# EAGLE library part 61001821121 (library Wuerth_Elektronik_eiCan_Pin_&_Socked_Headers_v1.3)
WR-PHD 2.54mm Dual SMT Pin Header, 18 Pins
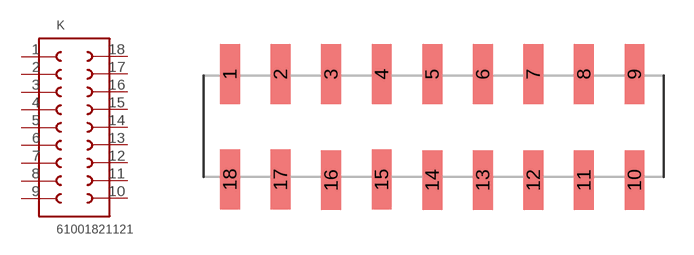
[diagram p97: symbol with the pads of 61001821121; footprint 61001821121]

Designator prefix K

## 61001821121  [61001821121]
1  1  pas
2  2  pas
3  3  pas
4  4  pas
5  5  pas
6  6  pas
7  7  pas
8  8  pas
9  9  pas
10  10  pas
11  11  pas
12  12  pas
13  13  pas
14  14  pas
15  15  pas
16  16  pas
17  17  pas
18  18  pas

## Footprint 61001821121 (pad centres in mm)
WR-PHD 2.54mm Dual SMT Pin Header, 18 Pins
smd 1 x 3: 1 -10.16,2.54; 2 -7.62,2.54; 3 -5.08,2.54; 4 -2.54,2.54; 5 0,2.54; 6 2.54,2.54; 7 5.08,2.54; 8 7.62,2.54; 9 10.16,2.54; 10 10.16,-2.79; 11 7.62,-2.79; 12 5.08,-2.79; 13 2.54,-2.79; 14 0,-2.79; 15 -2.54,-2.76; 16 -5.08,-2.79; 17 -7.62,-2.76; 18 -10.16,-2.76